# EAGLE library part MCP48 (library omcAD)
MCP4802/4812/4822 - 8/10/12-Bit Dual Voltage Output Digital-to-Analog Converter with Internal VREF and SPI Interface - Mircochip MCP802: Dual 8-Bit Voltage Output DAC MCP4812: Dual 10-Bit Voltage Output DAC MCP4822: Dual 12-Bit Voltage Output DAC Rail-to-Rail Output SPI Interface with 20 MHz Clock Support Simultaneous Latching of the Dual DACs with LDAC pin Fast Settling Time of 4.5 μs 2.048V Internal Voltage Reference 50ppm/°C VREF Temperature Coefficient 2.7V to 5.5V Single-Supply Operation Extended Temperature Range: -40°C to +125°C Datasheet: Microchip <http://ww1.microchip.com/downloads/en/devicedoc/20002249b.pdf> Reichelt <https://cdn-reichelt.de/documents/datenblatt/A200/MCP4802-4812-4822.pdf>
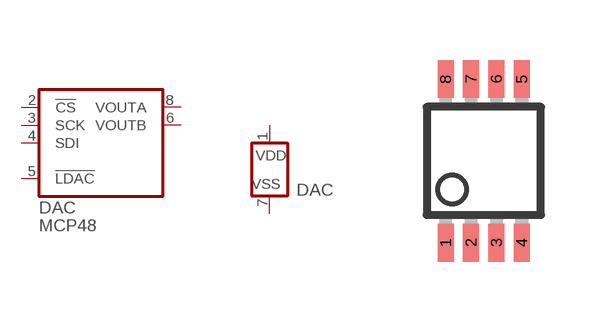
[diagram p1: symbol with the pads of MSOP08; footprint MSOP08]

Designator prefix DAC; gates G$1=DAC_SDI_LD G$2=PBOX_SUP1

## MCP4802-E/MS (VALUE: MCP4802), MCP4812-E/MS (DIST#REIHCELT#: MCP 4812-E/MS; VALUE: MCP4812; VENDOR#: Microchip,MCP4812-E/MS), MCP4822-E/MS (VALUE: MCP4822)  [MSOP08]
1  G$2:VDD  pwr
2  G$1:!CS  in
3  G$1:SCK  in
4  G$1:SDI  in
5  G$1:!LDAC  in
6  G$1:VOUTB
7  G$2:VSS  sup
8  G$1:VOUTA

## Footprint MSOP08 (pad centres in mm)
MSOP8 SMD 3mm×4.9mm Mechanical Reference <http://www.vishay.com/docs/71244/71244.pdf>
smd 0.4 x 0.95: 1 0.635,0.575; 2 1.27,0.575; 3 1.905,0.575; 4 2.54,0.575; 5 2.54,4.664; 6 1.905,4.664; 7 1.27,4.664; 8 0.635,4.664